# EAGLE library part SHT21 (library sensors)
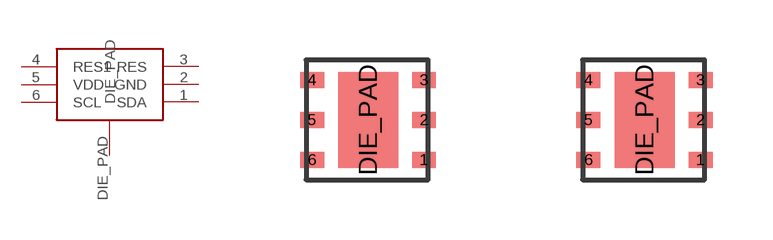
[diagram p0: symbol with the pads of SHT21_PADS; footprints SHT21_PADS, SHT21]

Designator prefix -

## SHT21SHT21_PADS  [SHT21_PADS]
1  SDA
2  GND
3  RES
4  RES1
5  VDD
6  SCL
DIE_PAD  DIE_PAD

## SHT21SHT21  [SHT21]
Pads as for SHT21_PADS

## Footprint SHT21_PADS (pad centres in mm)
smd 0.6 x 0.4: 1 2.9,0.5; 2 2.9,1.5; 3 2.9,2.5; 4 0.1,2.5; 5 0.1,1.5; 6 0.1,0.5
smd 1.5 x 2.4: DIE_PAD 1.5,1.5

## Footprint SHT21 (pad centres in mm)
smd 0.6 x 0.4: 1 1.43,-0.94; 2 1.43,0.06; 3 1.43,1.06; 4 -1.37,1.06; 5 -1.37,0.06; 6 -1.37,-0.94
smd 1.5 x 2.4: DIE_PAD 0.03,0.06